# EAGLE library part LPJ0011BBNL (library Revolve)
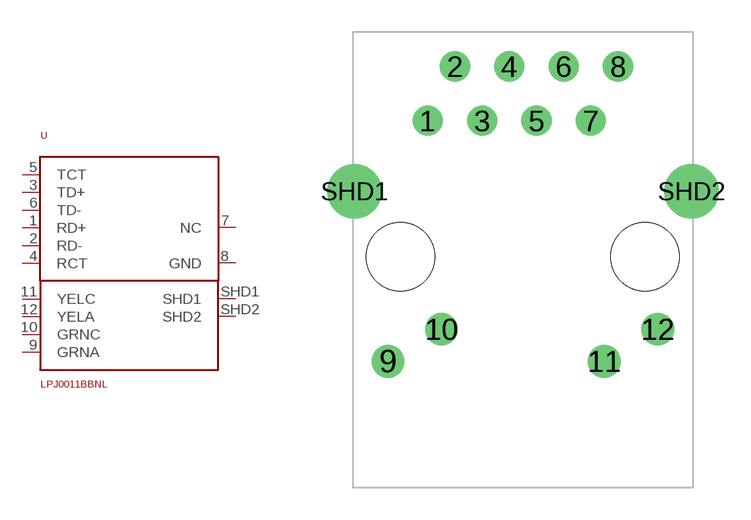
[diagram p1: symbol with the pads of LPJ0011BBNL; footprint LPJ0011BBNL]

Designator prefix -

## LPJ0011BBNL  [LPJ0011BBNL]
1  RD+  out
2  RD-  out
3  TD+  in
4  RCT  pwr
5  TCT  pwr
6  TD-  in
7  NC  nc
8  GND  sup
9  GRNA  pas
10  GRNC  pas
11  YELC  pas
12  YELA  pas
SHD1  SHD1  sup
SHD2  SHD2  sup

## Footprint LPJ0011BBNL (pad centres in mm)
drill 0.9: 1 -4.445,6.35; 2 -3.175,8.89; 3 -1.905,6.35; 4 -0.635,8.89; 5 0.635,6.35; 6 1.905,8.89; 7 3.175,6.35; 8 4.445,8.89
drill 1.02: 9 -6.3,-4.9; 10 -3.8,-3.4; 11 3.8,-4.9; 12 6.3,-3.4
drill 1.7: SHD1 -7.875,3.05; SHD2 7.875,3.05
hole 3.2 at -5.715,0
hole 3.2 at 5.715,0